# EAGLE library part MS23BNW03 (library Birdhouse)
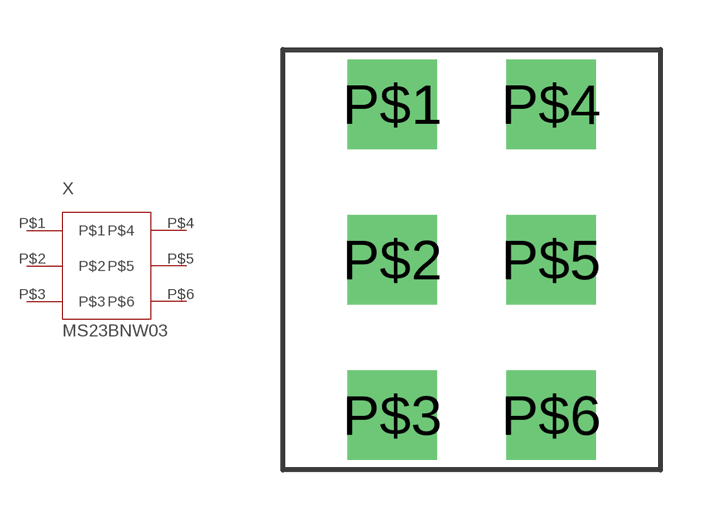
[diagram p0: symbol with the pads of MS23BNW03; footprint MS23BNW03]

Designator prefix X

## MS23BNW03  [MS23BNW03]
P$1  P$1
P$2  P$2
P$3  P$3
P$4  P$4
P$5  P$5
P$6  P$6

## Footprint MS23BNW03 (pad centres in mm)
drill 1.8 square: P$1 0,0; P$2 0,-4.7; P$3 0,-9.4; P$4 4.8,0; P$5 4.8,-4.7; P$6 4.8,-9.4